# EAGLE library part SN74HC74 (library bschulz)
SN74HC74 - D-Type Flip Flop with Clear and Preset, 2 Elements Characteristics: VCC: 2 ~ 6V Edge Trigger: Positive Edge Operating Temperature: -40°C to 85°C Digikey: 296-1204-5-ND (SOIC) <https://www.digikey.com/scripts/DkSearch/dksus.dll?Detail&itemSeq=262026752&uq=636628565894987856> 296-1602-5-ND (DIP) <https://www.digikey.com/product-detail/en/texas-instruments/SN74HC74N/296-1602-5-ND/277248>
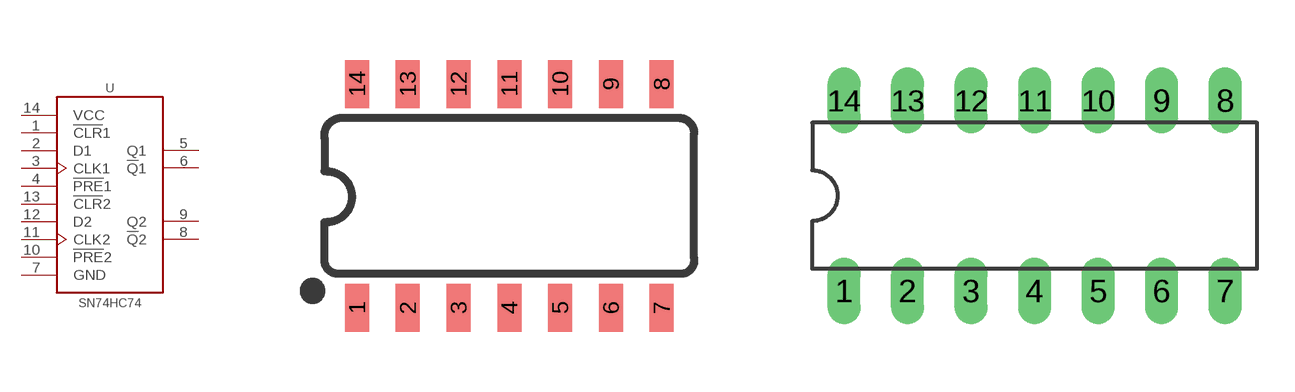
[diagram p51: symbol with the pads of SO14; footprints SO14, DIL14]

Designator prefix U

## SN74HC74D (DIGIKEY: 296-1204-5-ND; MF: TI; MPN: SN74HC74D)  [SO14]
1  !CLR!1  in
2  D1  in
3  CLK1  in
4  !PRE!1  in
5  Q1  out
6  !Q!1  out
7  GND  pwr
8  !Q!2  out
9  Q2  out
10  !PRE!2  in
11  CLK2  in
12  D2  in
13  !CLR!2  in
14  VCC  pwr

## SN74HC74N (DIGIKEY: 296-1602-5-ND; MF: TI; MPN: SN74HC74N)  [DIL14]
Pads as for SO14

## Footprint SO14 (pad centres in mm)
SOIC, 0.15 inch width
smd 0.6 x 1.2: 1 -3.175,-2.8; 2 -1.905,-2.8; 3 -0.635,-2.8; 4 0.635,-2.8; 5 1.905,-2.8; 6 3.175,-2.8; 7 4.445,-2.8; 8 4.445,2.8; 9 3.175,2.8; 10 1.905,2.8; 11 0.635,2.8; 12 -0.635,2.8; 13 -1.905,2.8; 14 -3.175,2.8

## Footprint DIL14 (pad centres in mm)
Dual In Line Package
drill 0.813 long: 1 -7.62,-3.81; 2 -5.08,-3.81; 3 -2.54,-3.81; 4 0,-3.81; 5 2.54,-3.81; 6 5.08,-3.81; 7 7.62,-3.81; 8 7.62,3.81; 9 5.08,3.81; 10 2.54,3.81; 11 0,3.81; 12 -2.54,3.81; 13 -5.08,3.81; 14 -7.62,3.81